# EAGLE library part P173 (library basicBoard)
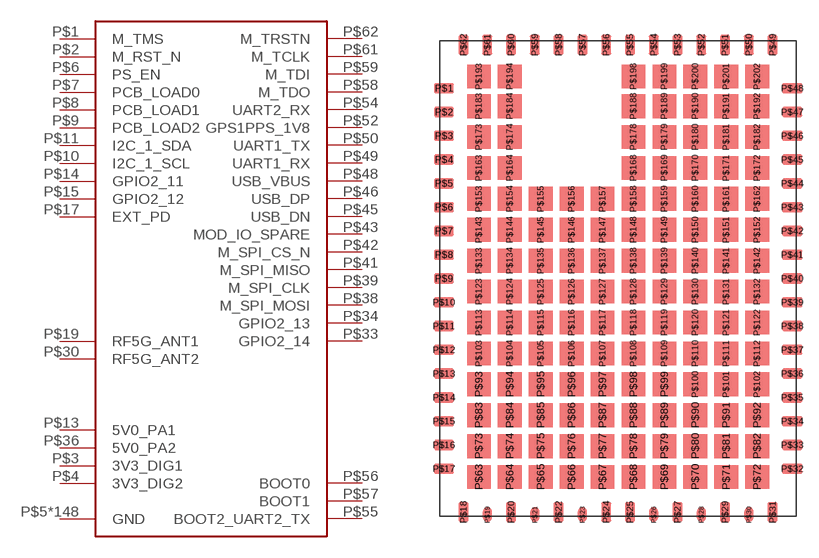
[diagram p15: symbol with the pads of P173_PKG; footprint P173_PKG]

Designator prefix -

## P173  [P173_PKG]
P$1  M_TMS
P$2  M_RST_N
P$3  3V3_DIG1
P$4  3V3_DIG2
P$5  GND
P$6  PS_EN
P$7  PCB_LOAD0
P$8  PCB_LOAD1
P$9  PCB_LOAD2
P$10  I2C_1_SCL
P$11  I2C_1_SDA
P$12  GND
P$13  5V0_PA1
P$14  GPIO2_11
P$15  GPIO2_12
P$16  GND
P$17  EXT_PD
P$18  GND
P$19  RF5G_ANT1
P$20  GND
P$22  GND
P$24  GND
P$25  GND
P$27  GND
P$29  GND
P$30  RF5G_ANT2
P$31  GND
P$32  GND
P$33  GPIO2_14
P$34  GPIO2_13
P$35  GND
P$36  5V0_PA2
P$37  GND
P$38  M_SPI_MOSI
P$39  M_SPI_CLK
P$40  GND
P$41  M_SPI_MISO
P$42  M_SPI_CS_N
P$43  MOD_IO_SPARE
P$44  GND
P$45  USB_DN
P$46  USB_DP
P$47  GND
P$48  USB_VBUS
P$49  UART1_RX
P$50  UART1_TX
P$51  GND
P$52  GPS1PPS_1V8
P$53  GND
P$54  UART2_RX
P$55  BOOT2_UART2_TX
P$56  BOOT0
P$57  BOOT1
P$58  M_TDO
P$59  M_TDI
P$60  GND
P$61  M_TCLK
P$62  M_TRSTN
P$63  GND
P$64  GND
P$65  GND
P$66  GND
P$67  GND
P$68  GND
P$69  GND
P$70  GND
P$71  GND
P$72  GND
P$73  GND
P$74  GND
P$75  GND
P$76  GND
P$77  GND
P$78  GND
P$79  GND
P$80  GND
P$81  GND
P$82  GND
P$83  GND
P$84  GND
P$85  GND
P$86  GND
P$87  GND
P$88  GND
P$89  GND
P$90  GND
P$91  GND
P$92  GND
P$93  GND
P$94  GND
P$95  GND
P$96  GND
P$97  GND
P$98  GND
P$99  GND
P$100  GND
P$101  GND
P$102  GND
P$103  GND
P$104  GND
P$105  GND
P$106  GND
P$107  GND
P$108  GND
P$109  GND
P$110  GND
P$111  GND
P$112  GND
P$113  GND
P$114  GND
P$115  GND
P$116  GND
P$117  GND
P$118  GND
P$119  GND
P$120  GND
P$121  GND
P$122  GND
P$123  GND
P$124  GND
P$125  GND
P$126  GND
P$127  GND
P$128  GND
P$129  GND
P$130  GND
P$131  GND
P$132  GND
P$133  GND
P$134  GND
P$135  GND
P$136  GND
P$137  GND
P$138  GND
P$139  GND
P$140  GND
P$141  GND
P$142  GND
P$143  GND
P$144  GND
P$145  GND
P$146  GND
P$147  GND
P$148  GND
P$149  GND
P$150  GND
P$151  GND
P$152  GND
P$153  GND
P$154  GND
P$155  GND
P$156  GND
P$157  GND
P$158  GND
P$159  GND
P$160  GND
P$161  GND
P$162  GND
P$163  GND
P$164  GND
P$168  GND
P$169  GND
P$170  GND
P$171  GND
P$172  GND
P$173  GND
P$174  GND
P$178  GND
P$179  GND
P$180  GND
P$181  GND
P$182  GND
P$183  GND
P$184  GND
P$188  GND
P$189  GND
P$190  GND
P$191  GND
P$192  GND
P$193  GND
P$194  GND
P$198  GND
P$199  GND
P$200  GND
P$201  GND
P$202  GND

## Footprint P173_PKG (pad centres in mm)
smd 1.7 x 0.87: P$1 -14.65,17; P$2 -14.65,15; P$3 -14.65,13; P$4 -14.65,11; P$5 -14.65,9; P$6 -14.65,7; P$7 -14.65,5; P$8 -14.65,3; P$9 -14.65,1; P$10 -14.65,-1; P$11 -14.65,-3; P$12 -14.65,-5; P$13 -14.65,-7; P$14 -14.65,-9; P$15 -14.65,-11; P$16 -14.65,-13; P$17 -14.65,-15; P$32 14.65,-15; P$33 14.65,-13; P$34 14.65,-11; P$35 14.65,-9; P$36 14.65,-7; P$37 14.65,-5; P$38 14.65,-3; P$39 14.65,-1; P$40 14.65,1; P$41 14.65,3; P$42 14.65,5; P$43 14.65,7; P$44 14.65,9; P$45 14.65,11; P$46 14.65,13; P$47 14.65,15; P$48 14.65,17
smd 0.87 x 1.7: P$18 -13,-18.65; P$20 -9,-18.65; P$22 -5,-18.65; P$24 -1,-18.65; P$25 1,-18.65; P$27 5,-18.65; P$29 9,-18.65; P$31 13,-18.65; P$49 13,20.65; P$50 11,20.65; P$51 9,20.65; P$52 7,20.65; P$53 5,20.65; P$54 3,20.65; P$55 1,20.65; P$56 -1,20.65; P$57 -3,20.65; P$58 -5,20.65; P$59 -7,20.65; P$60 -9,20.65; P$61 -11,20.65; P$62 -13,20.65
smd 0.76 x 1.28: P$19 -11,-18.86; P$21 -7,-18.86; P$23 -3,-18.86; P$26 3,-18.86; P$28 7,-18.86; P$30 11,-18.86
smd 2 x 2: P$63 -11.7,-15.7; P$64 -9.1,-15.7; P$65 -6.5,-15.7; P$66 -3.9,-15.7; P$67 -1.3,-15.7; P$68 1.3,-15.7; P$69 3.9,-15.7; P$70 6.5,-15.7; P$71 9.1,-15.7; P$72 11.7,-15.7; P$73 -11.7,-13.1; P$74 -9.1,-13.1; P$75 -6.5,-13.1; P$76 -3.9,-13.1; P$77 -1.3,-13.1; P$78 1.3,-13.1; P$79 3.9,-13.1; P$80 6.5,-13.1; P$81 9.1,-13.1; P$82 11.7,-13.1; P$83 -11.7,-10.5; P$84 -9.1,-10.5; P$85 -6.5,-10.5; P$86 -3.9,-10.5; P$87 -1.3,-10.5; P$88 1.3,-10.5; P$89 3.9,-10.5; P$90 6.5,-10.5; P$91 9.1,-10.5; P$92 11.7,-10.5; P$93 -11.7,-7.9; P$94 -9.1,-7.9; P$95 -6.5,-7.9; P$96 -3.9,-7.9; P$97 -1.3,-7.9; P$98 1.3,-7.9; P$99 3.9,-7.9; P$100 6.5,-7.9; P$101 9.1,-7.9; P$102 11.7,-7.9; P$103 -11.7,-5.3; P$104 -9.1,-5.3; P$105 -6.5,-5.3; P$106 -3.9,-5.3; P$107 -1.3,-5.3; P$108 1.3,-5.3; P$109 3.9,-5.3; P$110 6.5,-5.3; P$111 9.1,-5.3; P$112 11.7,-5.3; P$113 -11.7,-2.7; P$114 -9.1,-2.7; P$115 -6.5,-2.7; P$116 -3.9,-2.7; P$117 -1.3,-2.7; P$118 1.3,-2.7; P$119 3.9,-2.7; P$120 6.5,-2.7; P$121 9.1,-2.7; P$122 11.7,-2.7; P$123 -11.7,-0.1; P$124 -9.1,-0.1; P$125 -6.5,-0.1; P$126 -3.9,-0.1; P$127 -1.3,-0.1; P$128 1.3,-0.1; P$129 3.9,-0.1; P$130 6.5,-0.1; P$131 9.1,-0.1; P$132 11.7,-0.1; P$133 -11.7,2.5; P$134 -9.1,2.5; P$135 -6.5,2.5; P$136 -3.9,2.5; P$137 -1.3,2.5; P$138 1.3,2.5; P$139 3.9,2.5; P$140 6.5,2.5; P$141 9.1,2.5; P$142 11.7,2.5; P$143 -11.7,5.1; P$144 -9.1,5.1; P$145 -6.5,5.1; P$146 -3.9,5.1; P$147 -1.3,5.1; P$148 1.3,5.1; P$149 3.9,5.1; P$150 6.5,5.1; P$151 9.1,5.1; P$152 11.7,5.1; P$153 -11.7,7.7; P$154 -9.1,7.7; P$155 -6.5,7.7; P$156 -3.9,7.7; P$157 -1.3,7.7; P$158 1.3,7.7; P$159 3.9,7.7; P$160 6.5,7.7; P$161 9.1,7.7; P$162 11.7,7.7; P$163 -11.7,10.3; P$164 -9.1,10.3; P$168 1.3,10.3; P$169 3.9,10.3; P$170 6.5,10.3; P$171 9.1,10.3; P$172 11.7,10.3; P$173 -11.7,12.9; P$174 -9.1,12.9; P$178 1.3,12.9; P$179 3.9,12.9; P$180 6.5,12.9; P$181 9.1,12.9; P$182 11.7,12.9; P$183 -11.7,15.5; P$184 -9.1,15.5; P$188 1.3,15.5; P$189 3.9,15.5; P$190 6.5,15.5; P$191 9.1,15.5; P$192 11.7,15.5; P$193 -11.7,18; P$194 -9.1,18; P$198 1.3,18; P$199 3.9,18; P$200 6.5,18; P$201 9.1,18; P$202 11.7,18